# Altium footprint library ME3616EVK01.PcbLib: 22 footprints (part 2 of 2)
Each footprint in its own frame and in the unit in brackets; x right, y up, seen from the top. Pads: shape width x height; smd on the part's side, far side on the other; paste and mask are expansions set on the pad; w line width, h text height; cw(c..) or ccw(c..) is an arc to the next point about the centre after c.
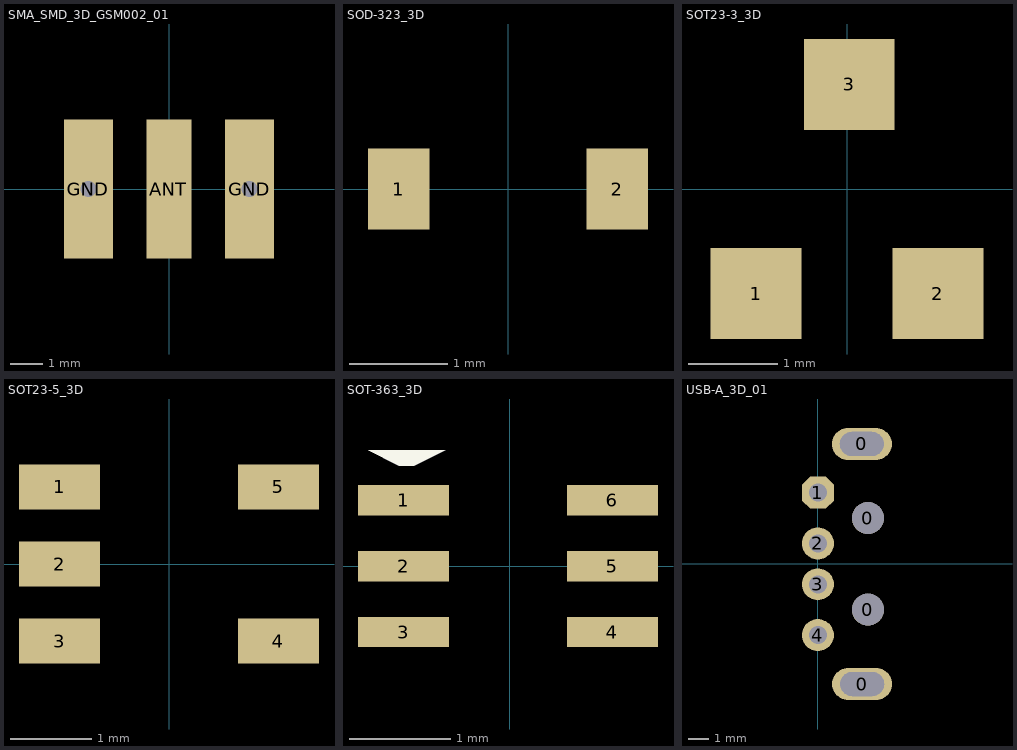
[diagram p1: the footprints below, top view; thin cyan lines are the x and y axes]

## SMA_SMD_3D_GSM002_01 [mm]
pads (3):
  rect 1.4x4.3 smd: ANT(0,0)
  rect 1.524x4.3 hole 0.5: GND(-2.5,0) GND(2.5,0)

## SOD-323_3D [mm]
pads (2):
  rect 0.63x0.83 smd: 1(-1.115,0) 2(1.115,0)

## SOT23-3_3D [mil]
pads (3):
  rect 40x40 smd: 1(-40,-46) 2(40,-46) 3(1,46)

## SOT23-5_3D [mm]
pads (5):
  rect 1x0.55 smd: 1(-1.35,0.95) 2(-1.35,0) 3(-1.35,-0.95) 4(1.35,-0.95) 5(1.35,0.95)

## SOT-363_3D [mm]
pads (6):
  rect 0.9x0.3 smd: 1(-1.046,0.65) 2(-1.046,0) 3(-1.046,-0.65) 4(1.016,-0.65) 5(1.016,0) 6(1.016,0.65)
Top Overlay:
  region: -1.397,1.143 -0.635,1.143 -0.94,0.991 -1.092,0.991

## USB-A_3D_01 [mm]
pads (8):
  oval 3x1.6 hole 1.2 slot 2.2 at 0 deg: 0(2.2,5.994) 0(2.21,-6.006)
  round 1.6 hole 1.6: 0(2.5,-2.29) 0(2.5,2.29)
  oct 1.6x1.6 hole 0.9: 1(0,3.56)
  round 1.6 hole 0.9: 2(0,1.02) 3(0,-1.02) 4(0,-3.56)